# Altium schematic symbol library GSM.SchLib: 10 symbols
Pins are listed as number, name and electrical type; pins without a type are passive.

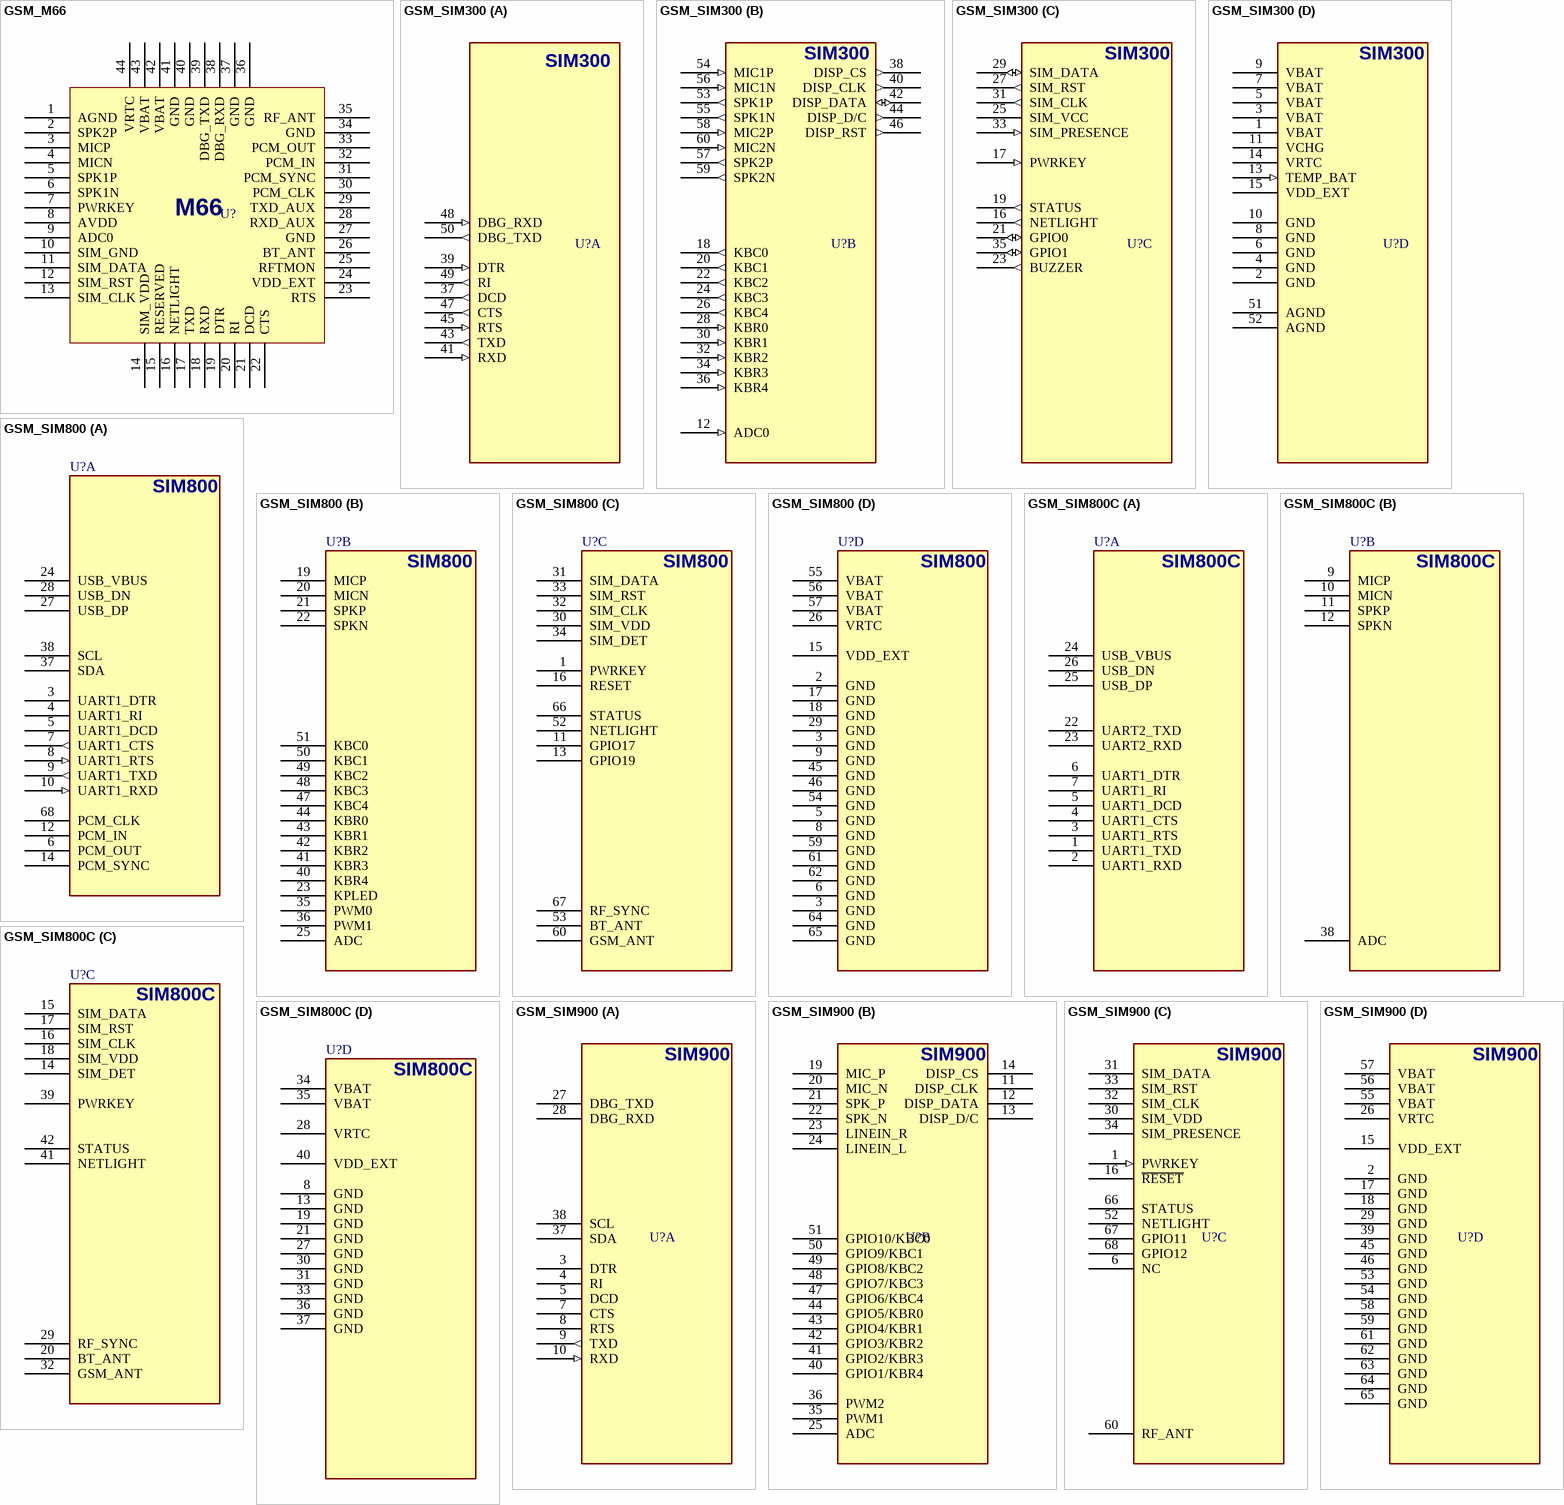
[diagram p0: symbols GSM_M66 to GSM_SIM900]

## GSM_M66
designator U?, comment SIM300  (value not drawn)
GSM, 850/900/1800/1900, GPRS, UART, 3.3~4.6V; MANF: SIMCom; PARAM2: 3.4~4.5VCC, 1.8/3VSIM; MANF_P#: SIM300; VALUE: SIM300
footprint GSM_M66
pins: 1 AGND, 2 SPK2P, 3 MICP, 4 MICN, 5 SPK1P, 6 SPK1N, 7 PWRKEY, 8 AVDD, 9 ADC0, 10 SIM_GND, 11 SIM_DATA, 12 SIM_RST, 13 SIM_CLK, 14 SIM_VDD, 15 RESERVED, 16 NETLIGHT, 17 TXD, 18 RXD, 19 DTR, 20 RI, 21 DCD, 22 CTS, 23 RTS, 24 VDD_EXT, 25 RFTMON, 26 BT_ANT, 27 GND, 28 RXD_AUX, 29 TXD_AUX, 30 PCM_CLK, 31 PCM_SYNC, 32 PCM_IN, 33 PCM_OUT, 34 GND, 35 RF_ANT, 36 GND, 37 GND, 38 DBG_RXD, 39 DBG_TXD, 40 GND, 41 GND, 42 VBAT, 43 VBAT, 44 VRTC
text: M66

## GSM_SIM300
designator U?, comment SIM300  (value not drawn)
GSM, 900/1800/1900, GPRS, UART, 3.4~4.5V; MANF: SIMCom; PARAM2: 3.4~4.5VCC, 1.8/3VSIM; MANF_P#: SIM300; VALUE: SIM300
footprint GSM_SIM300
part A pins: 37 DCD (out), 39 DTR (in), 41 RXD (in), 43 TXD (out), 45 RTS (in), 47 CTS (out), 48 DBG_RXD (in), 49 RI (out), 50 DBG_TXD (out)
part B pins: 12 ADC0 (in), 18 KBC0 (out), 20 KBC1 (out), 22 KBC2 (out), 24 KBC3 (out), 26 KBC4 (out), 28 KBR0 (in), 30 KBR1 (in), 32 KBR2 (in), 34 KBR3 (in), 36 KBR4 (in), 38 DISP_CS (out), 40 DISP_CLK (out), 42 DISP_DATA (io), 44 DISP_D/C (out), 46 DISP_RST (out), 53 SPK1P (out), 54 MIC1P (in), 55 SPK1N (out), 56 MIC1N (in), 57 SPK2P (out), 58 MIC2P (in), 59 SPK2N (out), 60 MIC2N (in)
part C pins: 16 NETLIGHT (out), 17 PWRKEY (in), 19 STATUS (out), 21 GPIO0 (io), 23 BUZZER (out), 25 SIM_VCC (power), 27 SIM_RST (out), 29 SIM_DATA (io), 31 SIM_CLK (out), 33 SIM_PRESENCE (in), 35 GPIO1 (io)
part D pins: 1 VBAT (power), 2 GND (power), 3 VBAT (power), 4 GND (power), 5 VBAT (power), 6 GND (power), 7 VBAT (power), 8 GND (power), 9 VBAT (power), 10 GND (power), 11 VCHG (power), 13 TEMP_BAT (in), 14 VRTC, 15 VDD_EXT, 51 AGND (power), 52 AGND (power)

## GSM_SIM800
designator U?, comment SIM800  (value not drawn)
GSM, 850/900/1800/1900, GPRS, USSD, UART/USB, 3.4~4.4V; MANF: SIMCom; PARAM2: 3.4~4.4VCC, 1.8/3VSIM; MANF_P#: SIM800; PARAM: 850/900/1800/1900, GPRS, USSD, UART/USB; VALUE: SIM800
footprint GSM_SIM800
part A pins: 3 UART1_DTR, 4 UART1_RI, 5 UART1_DCD, 6 PCM_OUT, 7 UART1_CTS (out), 8 UART1_RTS (in), 9 UART1_TXD (out), 10 UART1_RXD (in), 12 PCM_IN, 14 PCM_SYNC, 24 USB_VBUS, 27 USB_DP, 28 USB_DN, 37 SDA, 38 SCL, 68 PCM_CLK
part B pins: 19 MICP, 20 MICN, 21 SPKP, 22 SPKN, 23 KPLED, 25 ADC, 35 PWM0, 36 PWM1, 40 KBR4, 41 KBR3, 42 KBR2, 43 KBR1, 44 KBR0, 47 KBC4, 48 KBC3, 49 KBC2, 50 KBC1, 51 KBC0
part C pins: 1 PWRKEY, 11 GPIO17, 13 GPIO19, 16 RESET, 30 SIM_VDD, 31 SIM_DATA, 32 SIM_CLK, 33 SIM_RST, 34 SIM_DET, 52 NETLIGHT, 53 BT_ANT, 60 GSM_ANT, 66 STATUS, 67 RF_SYNC
part D pins: 2 GND, 3 GND, 3 GND, 5 GND, 6 GND, 8 GND, 9 GND, 15 VDD_EXT, 17 GND, 18 GND, 26 VRTC, 29 GND, 45 GND, 46 GND, 54 GND, 55 VBAT, 56 VBAT, 57 VBAT, 59 GND, 61 GND, 62 GND, 64 GND, 65 GND

## GSM_SIM800C
designator U?, comment SIM800C  (value not drawn)
GSM, 850/900/1800/1900, GPRS, USSD, UART/USB, 3.4~4.4V; MANF: SIMCom; PARAM2: 3.4~4.4VCC, 1.8/3VSIM; MANF_P#: SIM800C; PARAM: 850/900/1800/1900, GPRS, USSD, UART/USB; VALUE: SIM800C
footprint GSM_SIM800C
part A pins: 1 UART1_TXD , 2 UART1_RXD , 3 UART1_RTS , 4 UART1_CTS , 5 UART1_DCD , 6 UART1_DTR , 7 UART1_RI , 22 UART2_TXD , 23 UART2_RXD , 24 USB_VBUS , 25 USB_DP , 26 USB_DN 
part B pins: 9 MICP , 10 MICN , 11 SPKP , 12 SPKN , 38 ADC 
part C pins: 14 SIM_DET , 15 SIM_DATA , 16 SIM_CLK , 17 SIM_RST , 18 SIM_VDD , 20 BT_ANT , 29 RF_SYNC , 32 GSM_ANT , 39 PWRKEY , 41 NETLIGHT , 42 STATUS 
part D pins: 8 GND, 13 GND, 19 GND, 21 GND, 27 GND, 28 VRTC, 30 GND, 31 GND, 33 GND, 34 VBAT , 35 VBAT , 36 GND, 37 GND, 40 VDD_EXT 

## GSM_SIM900
designator U?, comment SIM900  (value not drawn)
GSM, 850/900/1800/1900, GPRS, USSD, UART, 3.2~4.8V; MANF: SIMCom; PARAM2: 3.2~4.8VCC, 1.8/3VSIM; MANF_P#: SIM900; PARAM: 850/900/1800/1900, GPRS, USSD, UART; VALUE: SIM900
footprint GSM_SIM900 (SIM900_SIM900A)
part A pins: 3 DTR (power), 4 RI (power), 5 DCD (power), 7 CTS (power), 8 RTS (power), 9 TXD (out), 10 RXD (in), 27 DBG_TXD (power), 28 DBG_RXD (power), 37 SDA (power), 38 SCL (power)
part B pins: 11 DISP_CLK (power), 12 DISP_DATA (power), 13 DISP_D/C (power), 14 DISP_CS (power), 19 MIC_P (power), 20 MIC_N (power), 21 SPK_P (power), 22 SPK_N (power), 23 LINEIN_R (power), 24 LINEIN_L (power), 25 ADC (power), 35 PWM1 (power), 36 PWM2 (power), 40 GPIO1/KBR4 (power), 41 GPIO2/KBR3 (power), 42 GPIO3/KBR2 (power), 43 GPIO4/KBR1 (power), 44 GPIO5/KBR0 (power), 47 GPIO6/KBC4 (power), 48 GPIO7/KBC3 (power), 49 GPIO8/KBC2 (power), 50 GPIO9/KBC1 (power), 51 GPIO10/KBC0 (power)
part C pins: 1 PWRKEY (in), 6 NC, 16 ~{RESET} (power), 30 SIM_VDD (power), 31 SIM_DATA (power), 32 SIM_CLK (power), 33 SIM_RST (power), 34 SIM_PRESENCE (power), 52 NETLIGHT (power), 60 RF_ANT (power), 66 STATUS (power), 67 GPIO11 (power), 68 GPIO12 (power)
part D pins: 2 GND (power), 15 VDD_EXT (power), 17 GND (power), 18 GND (power), 26 VRTC (power), 29 GND (power), 39 GND (power), 45 GND (power), 46 GND (power), 53 GND (power), 54 GND (power), 55 VBAT (power), 56 VBAT (power), 57 VBAT (power), 58 GND (power), 59 GND (power), 61 GND (power), 62 GND (power), 63 GND (power), 64 GND (power), 65 GND (power)

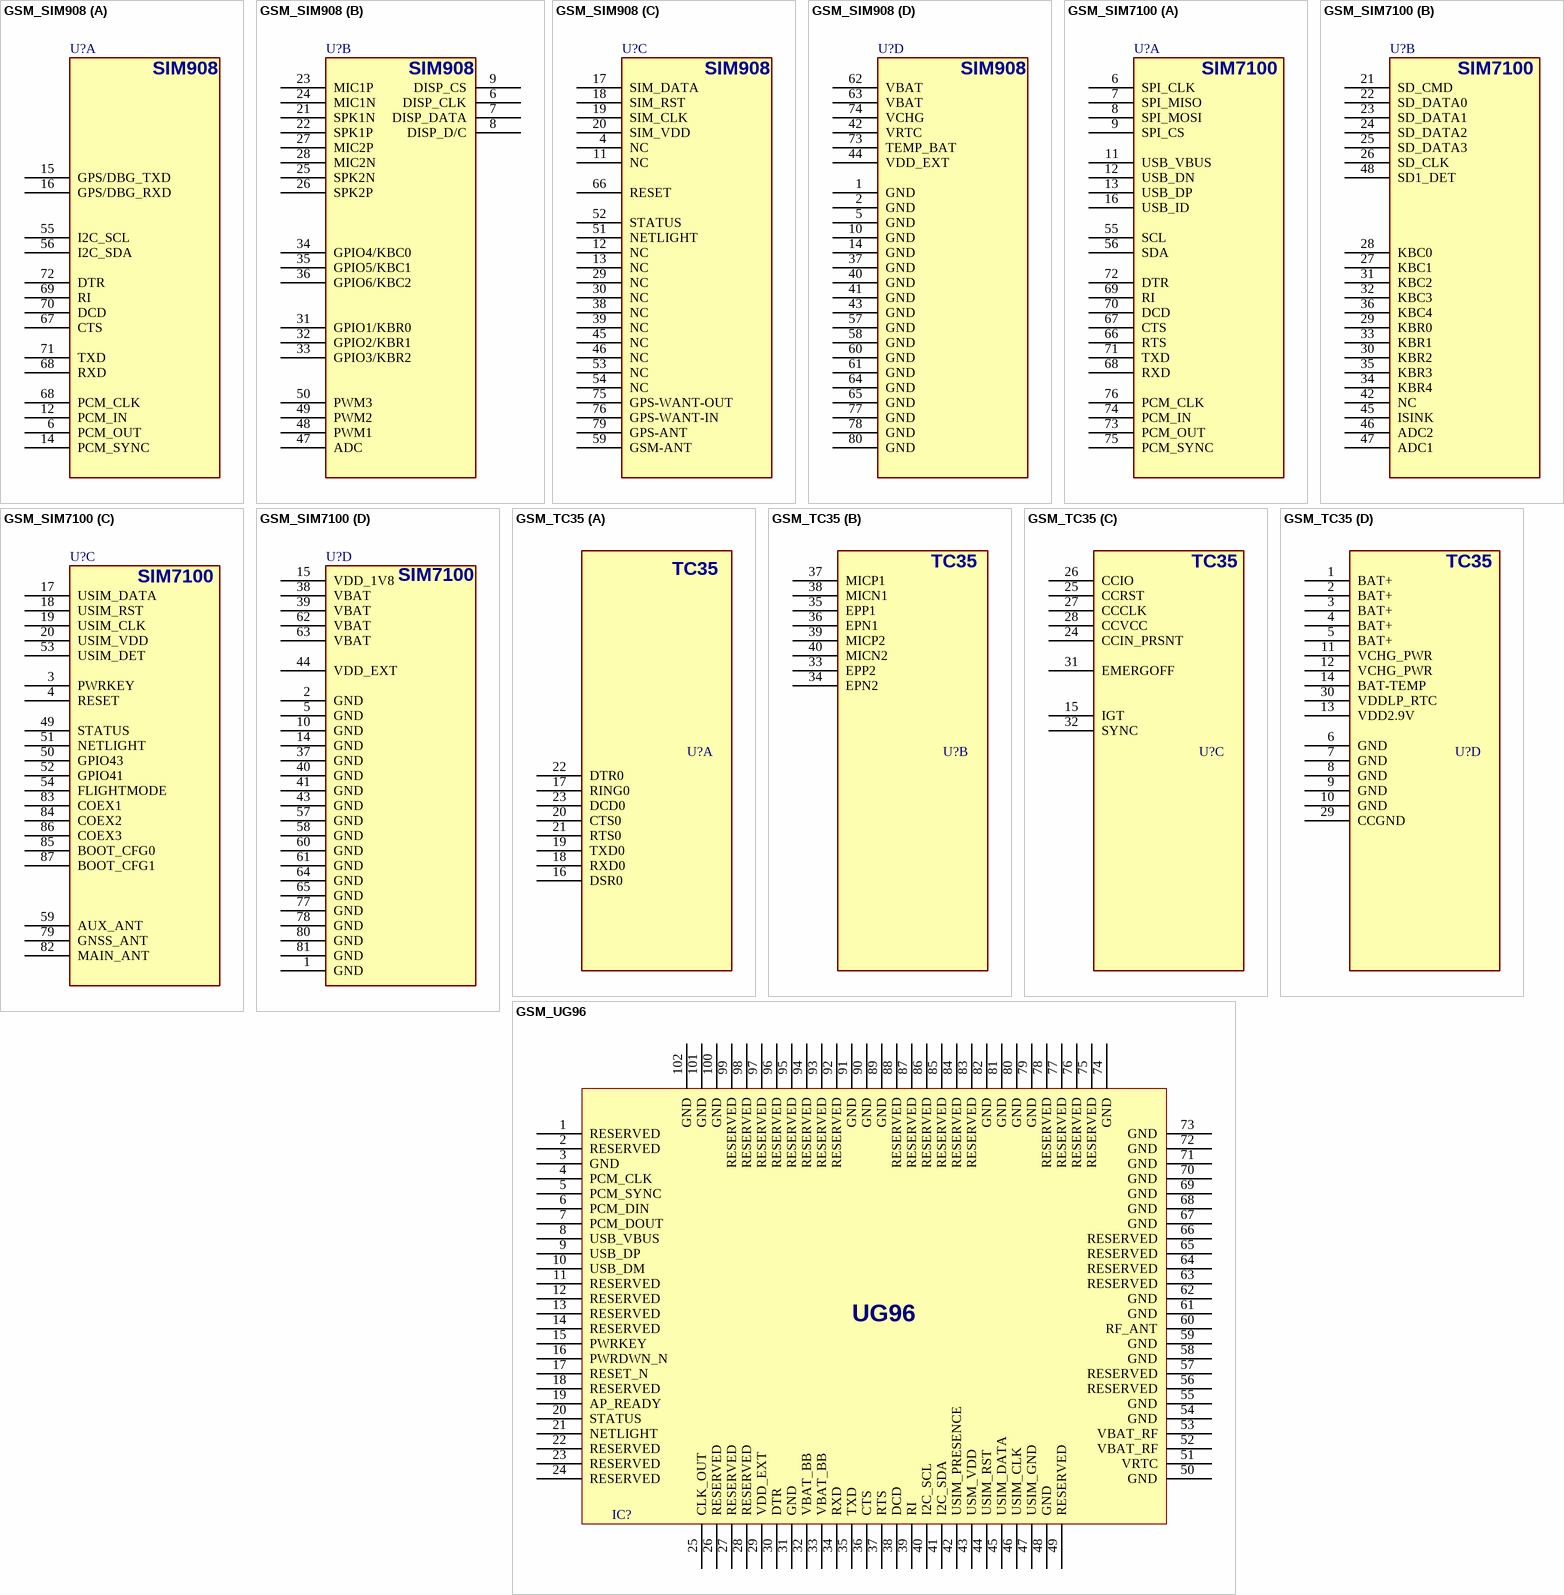
[diagram p1: symbols GSM_SIM908 to GSM_UG96]

## GSM_SIM908
designator U?, comment SIM908  (value not drawn)
GSM, 850/900/1800/1900, GPS, GPRS, USSD, UART, 3.2~4.8V; MANF: SIMCom; PARAM2: 3.2~4.8VCC; MANF_P#: SIM908; PARAM: 850/900/1800/1900, GPS, GPRS, USSD, UART; VALUE: SIM908
footprint GSM_SIM908 (SimCom Sim908 GPS/GSM)
part A pins: 6 PCM_OUT, 12 PCM_IN, 14 PCM_SYNC, 15 GPS/DBG_TXD, 16 GPS/DBG_RXD, 55 I2C_SCL, 56 I2C_SDA, 67 CTS, 68 PCM_CLK, 68 RXD, 69 RI, 70 DCD, 71 TXD, 72 DTR
part B pins: 6 DISP_CLK, 7 DISP_DATA, 8 DISP_D/C, 9 DISP_CS, 21 SPK1N, 22 SPK1P, 23 MIC1P, 24 MIC1N, 25 SPK2N, 26 SPK2P, 27 MIC2P, 28 MIC2N, 31 GPIO1/KBR0, 32 GPIO2/KBR1, 33 GPIO3/KBR2, 34 GPIO4/KBC0, 35 GPIO5/KBC1, 36 GPIO6/KBC2, 47 ADC, 48 PWM1, 49 PWM2, 50 PWM3
part C pins: 4 NC, 11 NC, 12 NC, 13 NC, 17 SIM_DATA, 18 SIM_RST, 19 SIM_CLK, 20 SIM_VDD, 29 NC, 30 NC, 38 NC, 39 NC, 45 NC, 46 NC, 51 NETLIGHT, 52 STATUS, 53 NC, 54 NC, 59 GSM-ANT, 66 RESET, 75 GPS-WANT-OUT, 76 GPS-WANT-IN, 79 GPS-ANT
part D pins: 1 GND (power), 2 GND (power), 5 GND (power), 10 GND (power), 14 GND (power), 37 GND (power), 40 GND (power), 41 GND (power), 42 VRTC, 43 GND (power), 44 VDD_EXT (power), 57 GND (power), 58 GND (power), 60 GND (power), 61 GND (power), 62 VBAT (power), 63 VBAT (power), 64 GND (power), 65 GND (power), 73 TEMP_BAT, 74 VCHG, 77 GND (power), 78 GND, 80 GND (power)

## GSM_SIM7100
designator U?, comment SIM7100  (value not drawn)
GSM, 850/900/1800/1900, 4G, GPS, UART/USB2.0/SPI, 3.4~4.2V; MANF: SIMCom; MANF_P#: SIM7100C; PARAM2: 3.4~4.2VCC; PARAM: 850/900/1800/1900, 4G, GPS, UART/USB2.0/SPI; VALUE: SIM7100
footprint SIM7100_87 (SIM7100 SIM5360 87-lead pitch:1mm 30x30mm)
part A pins: 6 SPI_CLK, 7 SPI_MISO, 8 SPI_MOSI, 9 SPI_CS, 11 USB_VBUS, 12 USB_DN, 13 USB_DP, 16 USB_ID, 55 SCL, 56 SDA, 66 RTS, 67 CTS, 68 RXD, 69 RI, 70 DCD, 71 TXD, 72 DTR, 73 PCM_OUT, 74 PCM_IN, 75 PCM_SYNC, 76 PCM_CLK
part B pins: 21 SD_CMD, 22 SD_DATA0, 23 SD_DATA1, 24 SD_DATA2, 25 SD_DATA3, 26 SD_CLK, 27 KBC1, 28 KBC0, 29 KBR0, 30 KBR2, 31 KBC2, 32 KBC3, 33 KBR1, 34 KBR4, 35 KBR3, 36 KBC4, 42 NC, 45 ISINK, 46 ADC2, 47 ADC1, 48 SD1_DET
part C pins: 3 PWRKEY, 4 RESET, 17 USIM_DATA, 18 USIM_RST, 19 USIM_CLK, 20 USIM_VDD, 49 STATUS, 50 GPIO43, 51 NETLIGHT, 52 GPIO41, 53 USIM_DET, 54 FLIGHTMODE, 59 AUX_ANT, 79 GNSS_ANT, 82 MAIN_ANT, 83 COEX1, 84 COEX2, 85 BOOT_CFG0, 86 COEX3, 87 BOOT_CFG1
part D pins: 1 GND, 2 GND, 5 GND, 10 GND, 14 GND, 15 VDD_1V8, 37 GND, 38 VBAT, 39 VBAT, 40 GND, 41 GND, 43 GND, 44 VDD_EXT, 57 GND, 58 GND, 60 GND, 61 GND, 62 VBAT, 63 VBAT, 64 GND, 65 GND, 77 GND, 78 GND, 80 GND, 81 GND

## GSM_TC35
designator U?, comment TC35  (value not drawn)
GSM, 900/1800 UART; MANF: SIEMENS; MANF_P#: TC35i; PARAM2: VBAT3.3~5.5V, PWR5.5~8V; VALUE: TC35
footprint GSM_TC35
part A pins: 16 DSR0, 17 RING0, 18 RXD0, 19 TXD0, 20 CTS0, 21 RTS0, 22 DTR0, 23 DCD0
part B pins: 33 EPP2, 34 EPN2, 35 EPP1, 36 EPN1, 37 MICP1, 38 MICN1, 39 MICP2, 40 MICN2
part C pins: 15 IGT, 24 CCIN_PRSNT, 25 CCRST, 26 CCIO, 27 CCCLK, 28 CCVCC, 31 EMERGOFF, 32 SYNC
part D pins: 1 BAT+, 2 BAT+, 3 BAT+, 4 BAT+, 5 BAT+, 6 GND, 7 GND, 8 GND, 9 GND, 10 GND, 11 VCHG_PWR, 12 VCHG_PWR, 13 VDD2.9V, 14 BAT-TEMP, 29 CCGND, 30 VDDLP_RTC

## GSM_UG96
designator IC?, comment UG96  (value not drawn)
GSM, 800/850/900/1900/2100, USB, UART, I2C, 3.3~4.3V; MANF: Quectel; PARAM2: 3.3~4.3VCC, 1.8/3VSIM; MANF_P#: UG96; VALUE: UG96
footprint GSM_UG96
pins: 1 RESERVED, 2 RESERVED, 3 GND, 4 PCM_CLK, 5 PCM_SYNC, 6 PCM_DIN, 7 PCM_DOUT, 8 USB_VBUS, 9 USB_DP, 10 USB_DM, 11 RESERVED, 12 RESERVED, 13 RESERVED, 14 RESERVED, 15 PWRKEY, 16 PWRDWN_N, 17 RESET_N, 18 RESERVED, 19 AP_READY, 20 STATUS, 21 NETLIGHT, 22 RESERVED, 23 RESERVED, 24 RESERVED, 25 CLK_OUT, 26 RESERVED, 27 RESERVED, 28 RESERVED, 29 VDD_EXT, 30 DTR, 31 GND, 32 VBAT_BB, 33 VBAT_BB, 34 RXD, 35 TXD, 36 CTS, 37 RTS, 38 DCD, 39 RI, 40 I2C_SCL, 41 I2C_SDA, 42 USIM_PRESENCE, 43 USM_VDD, 44 USIM_RST, 45 USIM_DATA, 46 USIM_CLK, 47 USIM_GND, 48 GND, 49 RESERVED, 50 GND, 51 VRTC, 52 VBAT_RF, 53 VBAT_RF, 54 GND, 55 GND, 56 RESERVED, 57 RESERVED, 58 GND, 59 GND, 60 RF_ANT, 61 GND, 62 GND, 63 RESERVED, 64 RESERVED, 65 RESERVED, 66 RESERVED, 67 GND, 68 GND, 69 GND, 70 GND, 71 GND, 72 GND, 73 GND, 74 GND, 75 RESERVED, 76 RESERVED, 77 RESERVED, 78 RESERVED, 79 GND, 80 GND, 81 GND, 82 GND, 83 RESERVED, 84 RESERVED, 85 RESERVED, 86 RESERVED, 87 RESERVED, 88 RESERVED, 89 GND, 90 GND, 91 GND, 92 RESERVED, 93 RESERVED, 94 RESERVED, 95 RESERVED, 96 RESERVED, 97 RESERVED, 98 RESERVED, 99 RESERVED, 100 GND, 101 GND, 102 GND

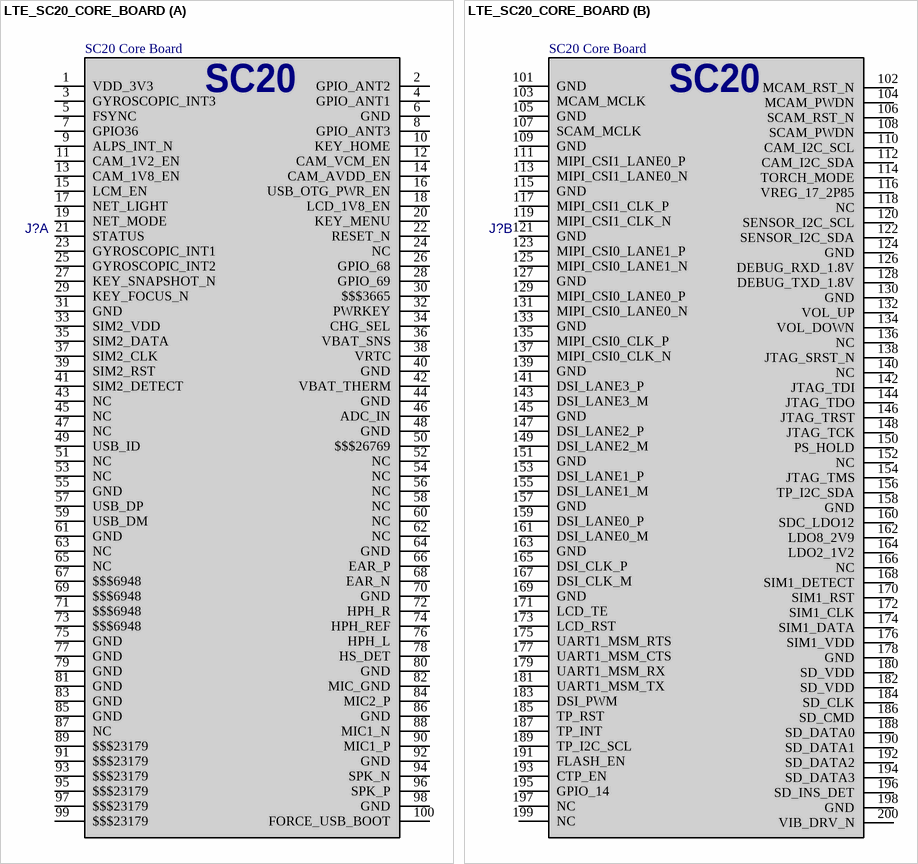
[diagram p2: symbol LTE_SC20_CORE_BOARD]

## LTE_SC20_CORE_BOARD
designator J?, comment SC20 Core Board
SC20 Core Board Connectors; MANF: HIROSE; DESC: Mating DF23C-20DS-0.5V(51); MANF_P#: DF23C-20DP-0.5V(92); PRICE: 0.85$; VALUE: SC20 Core Board
footprint LTE_SC20_CORE_BOARD
part A pins: 1 VDD_3V3, 2 GPIO_ANT2, 3 GYROSCOPIC_INT3, 4 GPIO_ANT1, 5 FSYNC, 6 GND, 7 GPIO36, 8 GPIO_ANT3, 9 ALPS_INT_N, 10 KEY_HOME, 11 CAM_1V2_EN, 12 CAM_VCM_EN, 13 CAM_1V8_EN, 14 CAM_AVDD_EN, 15 LCM_EN, 16 USB_OTG_PWR_EN, 17 NET_LIGHT, 18 LCD_1V8_EN, 19 NET_MODE, 20 KEY_MENU, 21 STATUS, 22 RESET_N, 23 GYROSCOPIC_INT1, 24 NC, 25 GYROSCOPIC_INT2, 26 GPIO_68, 27 KEY_SNAPSHOT_N, 28 GPIO_69, 29 KEY_FOCUS_N, 30 $$$3665, 31 GND, 32 PWRKEY, 33 SIM2_VDD, 34 CHG_SEL, 35 SIM2_DATA, 36 VBAT_SNS, 37 SIM2_CLK, 38 VRTC, 39 SIM2_RST, 40 GND, 41 SIM2_DETECT, 42 VBAT_THERM, 43 NC, 44 GND, 45 NC, 46 ADC_IN, 47 NC, 48 GND, 49 USB_ID, 50 $$$26769, 51 NC, 52 NC, 53 NC, 54 NC, 55 GND, 56 NC, 57 USB_DP, 58 NC, 59 USB_DM, 60 NC, 61 GND, 62 NC, 63 NC, 64 GND, 65 NC, 66 EAR_P, 67 $$$6948, 68 EAR_N, 69 $$$6948, 70 GND, 71 $$$6948, 72 HPH_R, 73 $$$6948, 74 HPH_REF, 75 GND, 76 HPH_L, 77 GND, 78 HS_DET, 79 GND, 80 GND, 81 GND, 82 MIC_GND, 83 GND, 84 MIC2_P, 85 GND, 86 GND, 87 NC, 88 MIC1_N, 89 $$$23179, 90 MIC1_P, 91 $$$23179, 92 GND, 93 $$$23179, 94 SPK_N, 95 $$$23179, 96 SPK_P, 97 $$$23179, 98 GND, 99 $$$23179, 100 FORCE_USB_BOOT
part B pins: 101 GND, 102 MCAM_RST_N, 103 MCAM_MCLK, 104 MCAM_PWDN, 105 GND, 106 SCAM_RST_N, 107 SCAM_MCLK, 108 SCAM_PWDN, 109 GND, 110 CAM_I2C_SCL, 111 MIPI_CSI1_LANE0_P, 112 CAM_I2C_SDA, 113 MIPI_CSI1_LANE0_N, 114 TORCH_MODE, 115 GND, 116 VREG_17_2P85, 117 MIPI_CSI1_CLK_P, 118 NC, 119 MIPI_CSI1_CLK_N, 120 SENSOR_I2C_SCL, 121 GND, 122 SENSOR_I2C_SDA, 123 MIPI_CSI0_LANE1_P, 124 GND, 125 MIPI_CSI0_LANE1_N, 126 DEBUG_RXD_1.8V, 127 GND, 128 DEBUG_TXD_1.8V, 129 MIPI_CSI0_LANE0_P, 130 GND, 131 MIPI_CSI0_LANE0_N, 132 VOL_UP, 133 GND, 134 VOL_DOWN, 135 MIPI_CSI0_CLK_P, 136 NC, 137 MIPI_CSI0_CLK_N, 138 JTAG_SRST_N, 139 GND, 140 NC, 141 DSI_LANE3_P, 142 JTAG_TDI, 143 DSI_LANE3_M, 144 JTAG_TDO, 145 GND, 146 JTAG_TRST, 147 DSI_LANE2_P, 148 JTAG_TCK, 149 DSI_LANE2_M, 150 PS_HOLD, 151 GND, 152 NC, 153 DSI_LANE1_P, 154 JTAG_TMS, 155 DSI_LANE1_M, 156 TP_I2C_SDA, 157 GND, 158 GND, 159 DSI_LANE0_P, 160 SDC_LDO12, 161 DSI_LANE0_M, 162 LDO8_2V9, 163 GND, 164 LDO2_1V2, 165 DSI_CLK_P, 166 NC, 167 DSI_CLK_M, 168 SIM1_DETECT, 169 GND, 170 SIM1_RST, 171 LCD_TE, 172 SIM1_CLK, 173 LCD_RST, 174 SIM1_DATA, 175 UART1_MSM_RTS, 176 SIM1_VDD, 177 UART1_MSM_CTS, 178 GND, 179 UART1_MSM_RX, 180 SD_VDD, 181 UART1_MSM_TX, 182 SD_VDD, 183 DSI_PWM, 184 SD_CLK, 185 TP_RST, 186 SD_CMD, 187 TP_INT, 188 SD_DATA0, 189 TP_I2C_SCL, 190 SD_DATA1, 191 FLASH_EN, 192 SD_DATA2, 193 CTP_EN, 194 SD_DATA3, 195 GPIO_14, 196 SD_INS_DET, 197 NC, 198 GND, 199 NC, 200 VIB_DRV_N
part A text: SC20
part B text: SC20